# EAGLE library part STMPS22*?TR (library st-power-sw)
Enhanced dual-channel power switches Description The STMPS2242/2252/2262/2272 power distribution switches are intended for applications where heavy capacitive loads and short-circuits are likely to be encountered. These devices incorporate 100 mΩ MOSFET high-side power switches for power distribution systems that require multiple power switches in a single package. Each switch is controlled by an independent logic enable input. When the output load exceeds the current limit threshold or a short is present, these devices limit the output current to a safe level by switching into a constant current mode, pulling the overcurrent (OCx) logic output low. When continuous heavy overloads and short-circuits increase the power dissipation in the switch, causing the junction temperature to rise, a thermal protection circuit shuts off the switch to prevent damage. Recovery from a thermal shutdown is automatic once the device has cooled sufficiently. Internal circuitry ensures the switch remains off until valid input voltage is present. KEY FEATURES ■ 100 mΩ high-side MOSFET switch ■ 500 mA/1000 mA continuous current per channel ■ Thermal protection ■ Independent short-circuit protection with overcurrent logic output ■ Operating range from 2.7 V to 5.5 V ■ CMOS and TTL compatible inputs ■ 2.5 ms typical rise time ■ Undervoltage lockout ■ 13 µA maximum standby supply current ■ Ambient temperature range: -40 °C to 85 °C ■ 8 kV ESD protection ■ Reverse current protection ■ Fault blanking How To Order Part Number Current Enable Package STMPS22 42 = 500mA 52 = 500mA 62 = 1000mA 72 = 1000mA Active low Active high Active low Active high M = SOIC-8 T = TSSOP8 Ref: Datasheet <http://www.st.com/st-web-ui/static/active/en/resource/technical/document/datasheet/CD00210593.pdf> Add more variants to STMPS22@, just remplace the "@" with a new technologie named according to order code parameters. It is mandatory to fill up the following attributes MANUFACTURER, DESCRIPTION, MOUSER, AVNET, ARROW, FUTURE, NEWARK, DIGIKEY, AVRG-PRICE, OCTOPART-LINK, DATASHEET
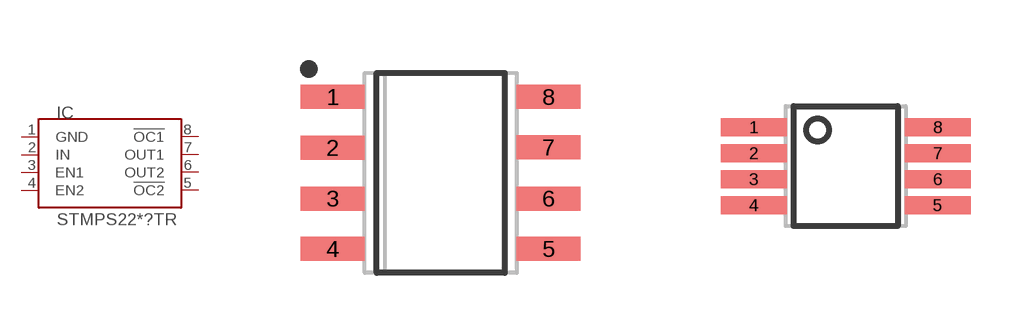
[diagram p0: symbol with the pads of SOIC127P600X175-8N; footprints SOIC127P600X175-8N, SOP65P490X109-8M]

Designator prefix IC

## STMPS22@MTR  [SOIC127P600X175-8N]
1  GND  pwr
2  IN  pwr
3  EN1
4  EN2
5  !OC2
6  OUT2  pwr
7  OUT1  pwr
8  !OC1

## STMPS2242TTR (AVRG-PRICE: 1.52; DATASHEET: http://datasheet.octopart.com/STMPS2242TTR-STMicroelectronics-datasheet-10836656.pdf; DESCRIPTION: Circuitos integrados de interruptor de alimentación - Distribución de alimentación Enhanced dual ch Power Switches; DIGIKEY: 497-10330-2-ND; MANUFACTURER: ST; MOUSER: 511-STMPS2242TTR; OCTOPART-LINK: http://octopart.com/stmps2242ttr-stmicroelectronics-12757573), STMPS22@TTR  [SOP65P490X109-8M]
Pads as for SOIC127P600X175-8N

## Footprint SOIC127P600X175-8N (pad centres in mm)
Small Outline Package (SOIC8) 1.27mm Pitch 0.5mm Pin Width 8 Pin count 3.9mm L x 4.9mm W x 1.75mm H ----------------------------------------------------
smd 1.6 x 0.6: 1 -2.7,1.9; 2 -2.7,0.63; 3 -2.7,-0.64; 4 -2.7,-1.9; 5 2.7,-1.9; 6 2.7,-0.64; 7 2.7,0.64; 8 2.7,1.9

## Footprint SOP65P490X109-8M (pad centres in mm)
Small Outline Package (SOP8) 0.65mm Pitch 8 Pin count 3.0mm L x 3.0mm W x 1.1mm H ----------------------------------------------------
smd 1.65 x 0.45: 1 -2.3,0.975; 2 -2.3,0.325; 3 -2.3,-0.325; 4 -2.3,-0.975; 5 2.3,-0.975; 6 2.3,-0.325; 7 2.3,0.325; 8 2.3,0.975